# Altium footprint library PCB.PCBLIB: 320 footprints (part 9 of 20)
Each footprint in its own frame and in the unit in brackets; x right, y up, seen from the top. Pads: shape width x height; smd on the part's side, far side on the other; paste and mask are expansions set on the pad; w line width, h text height; cw(c..) or ccw(c..) is an arc to the next point about the centre after c.
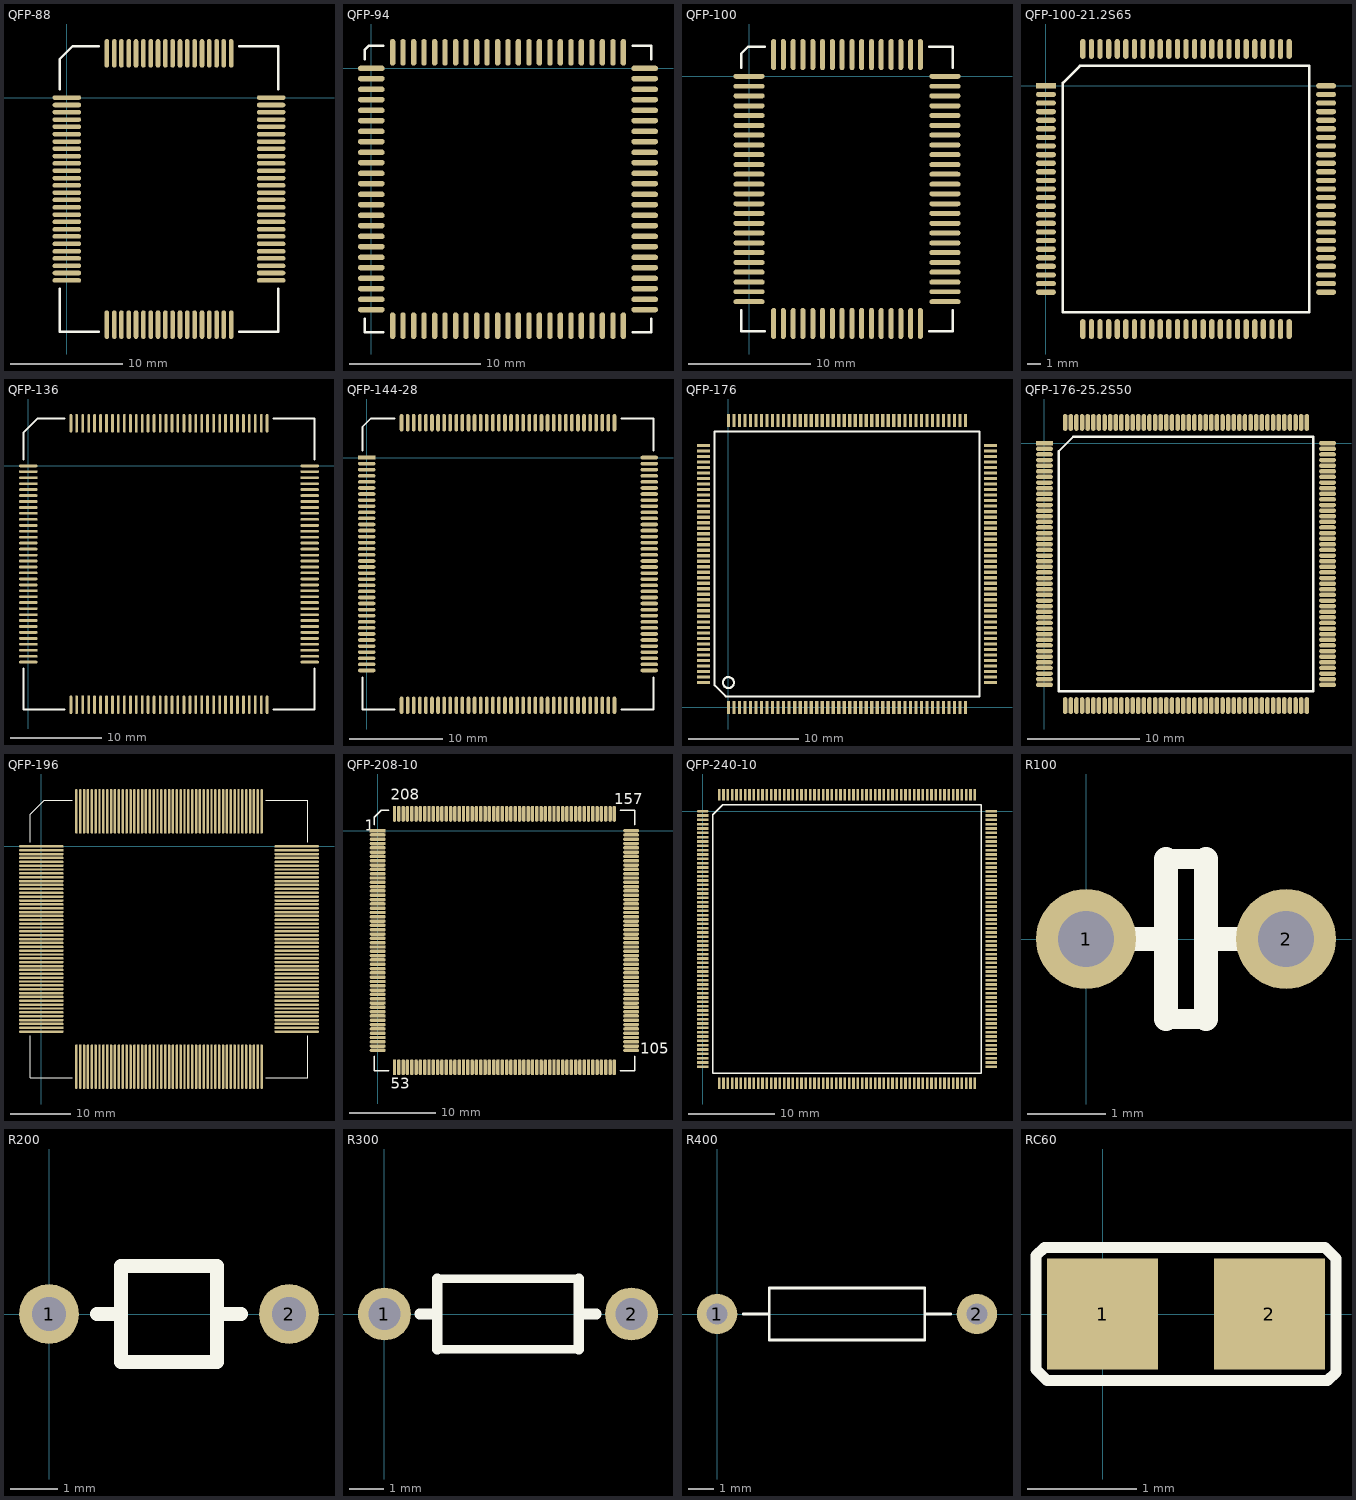
[diagram p8: the footprints below, top view; thin cyan lines are the x and y axes]

## QFP-88 [mil]
pads (88):
  oval 100x16 smd: 1(0,0) 2(0,-26) 3(0,-51) 4(0,-77) 5(0,-102) 6(0,-128) 7(0,-154) 8(0,-179) 9(0,-205) 10(0,-230) 11(0,-256) 12(0,-282) 13(0,-307) 14(0,-333) 15(0,-358) 16(0,-384) 17(0,-410) 18(0,-435) 19(0,-461) 20(0,-486) 21(0,-512) 22(0,-538) 23(0,-563) 24(0,-589) 25(0,-614) 26(0,-640) 45(715,-640) 46(715,-614) 47(715,-589) 48(715,-563) 49(715,-538) 50(715,-512) 51(715,-486) 52(715,-461) 53(715,-435) 54(715,-410) 55(715,-384) 56(715,-358) 57(715,-333) 58(715,-307) 59(715,-282) 60(715,-256) 61(715,-230) 62(715,-205) 63(715,-179) 64(715,-154) 65(715,-128) 66(715,-102) 67(715,-77) 68(715,-51) 69(715,-26) 70(715,0)
  oval 16x100 smd: 27(140,-795) 28(166,-795) 29(191,-795) 30(217,-795) 31(242,-795) 32(268,-795) 33(294,-795) 34(319,-795) 35(345,-795) 36(370,-795) 37(396,-795) 38(421,-795) 39(447,-795) 40(473,-795) 41(498,-795) 42(524,-795) 43(549,-795) 44(575,-795) 71(575,155) 72(549,155) 73(524,155) 74(498,155) 75(473,155) 76(447,155) 77(421,155) 78(396,155) 79(370,155) 80(345,155) 81(319,155) 82(294,155) 83(268,155) 84(242,155) 85(217,155) 86(191,155) 87(166,155) 88(140,155)
TopOverlay:
  lines w7.87: -25,-668 -25,-820 112,-820 ; -25,28 -25,135 20,180 112,180 ; 603,-820 740,-820 740,-668 ; 603,180 740,180 740,28

## QFP-94 [mil]
pads (94):
  oval 80x16 smd: 1(0,0) 2(0,-31) 3(0,-63) 4(0,-94) 5(0,-126) 6(0,-157) 7(0,-189) 8(0,-220) 9(0,-252) 10(0,-283) 11(0,-315) 12(0,-346) 13(0,-378) 14(0,-409) 15(0,-441) 16(0,-472) 17(0,-504) 18(0,-535) 19(0,-567) 20(0,-598) 21(0,-630) 22(0,-661) 23(0,-693) 24(0,-724) 48(820,-724) 49(820,-693) 50(820,-661) 51(820,-630) 52(820,-598) 53(820,-567) 54(820,-535) 55(820,-504) 56(820,-472) 57(820,-441) 58(820,-409) 59(820,-378) 60(820,-346) 61(820,-315) 62(820,-283) 63(820,-252) 64(820,-220) 65(820,-189) 66(820,-157) 67(820,-126) 68(820,-94) 69(820,-63) 70(820,-31) 71(820,0)
  oval 16x80 smd: 25(64,-772) 26(95,-772) 27(127,-772) 28(158,-772) 29(190,-772) 30(221,-772) 31(253,-772) 32(284,-772) 33(316,-772) 34(347,-772) 35(379,-772) 36(410,-772) 37(441,-772) 38(473,-772) 39(504,-772) 40(536,-772) 41(567,-772) 42(599,-772) 43(630,-772) 44(662,-772) 45(693,-772) 46(725,-772) 47(756,-772) 72(756,48) 73(725,48) 74(693,48) 75(662,48) 76(630,48) 77(599,48) 78(567,48) 79(536,48) 80(504,48) 81(473,48) 82(441,48) 83(410,48) 84(379,48) 85(347,48) 86(316,48) 87(284,48) 88(253,48) 89(221,48) 90(190,48) 91(158,48) 92(127,48) 93(95,48) 94(64,48)
TopOverlay:
  lines w7.87: -20,-752 -20,-792 36,-792 ; -20,28 -20,55 -7,68 36,68 ; 784,-792 840,-792 840,-752 ; 784,68 840,68 840,28

## QFP-100 [mil]
pads (80):
  oval 100x16 smd: 1(0,0) 2(0,-32) 3(0,-63) 4(0,-95) 5(0,-126) 6(0,-158) 7(0,-189) 8(0,-221) 9(0,-252) 10(0,-284) 11(0,-315) 12(0,-347) 13(0,-378) 14(0,-410) 15(0,-441) 16(0,-473) 17(0,-504) 18(0,-536) 19(0,-567) 20(0,-599) 21(0,-630) 22(0,-662) 23(0,-693) 24(0,-725) 41(630,-725) 42(630,-693) 43(630,-662) 44(630,-630) 45(630,-599) 46(630,-567) 47(630,-536) 48(630,-504) 49(630,-473) 50(630,-441) 51(630,-410) 52(630,-378) 53(630,-347) 54(630,-315) 55(630,-284) 56(630,-252) 57(630,-221) 58(630,-189) 59(630,-158) 60(630,-126) 61(630,-95) 62(630,-63) 63(630,-32) 64(630,0)
  oval 16x100 smd: 25(79,-795) 26(110,-795) 27(142,-795) 28(173,-795) 29(205,-795) 30(236,-795) 31(268,-795) 32(299,-795) 33(331,-795) 34(362,-795) 35(394,-795) 36(425,-795) 37(457,-795) 38(488,-795) 39(520,-795) 40(551,-795) 65(551,70) 66(520,70) 67(488,70) 68(457,70) 69(425,70) 70(394,70) 71(362,70) 72(331,70) 73(299,70) 74(268,70) 75(236,70) 76(205,70) 77(173,70) 78(142,70) 79(110,70) 80(79,70)
TopOverlay:
  lines w7.87: -25,-753 -25,-820 51,-820 ; -25,28 -25,73 -3,95 51,95 ; 579,-820 655,-820 655,-753 ; 579,95 655,95 655,28

## QFP-100-21.2S65 [mm]
pads (100):
  rect 1.5x0.4 smd: 1(0,0)
  oval 1.5x0.4 smd: 2(0,-0.65) 3(0,-1.3) 4(0,-1.95) 5(0,-2.6) 6(0,-3.25) 7(0,-3.9) 8(0,-4.55) 9(0,-5.2) 10(0,-5.85) 11(0,-6.5) 12(0,-7.15) 13(0,-7.8) 14(0,-8.45) 15(0,-9.1) 16(0,-9.75) 17(0,-10.4) 18(0,-11.05) 19(0,-11.7) 20(0,-12.35) 21(0,-13) 22(0,-13.65) 23(0,-14.3) 24(0,-14.95) 25(0,-15.6) 51(21.18,-15.6) 52(21.18,-14.95) 53(21.18,-14.3) 54(21.18,-13.65) 55(21.18,-13) 56(21.18,-12.35) 57(21.18,-11.7) 58(21.18,-11.05) 59(21.18,-10.4) 60(21.18,-9.75) 61(21.18,-9.1) 62(21.18,-8.45) 63(21.18,-7.8) 64(21.18,-7.15) 65(21.18,-6.5) 66(21.18,-5.85) 67(21.18,-5.2) 68(21.18,-4.55) 69(21.18,-3.9) 70(21.18,-3.25) 71(21.18,-2.6) 72(21.18,-1.95) 73(21.18,-1.3) 74(21.18,-0.65) 75(21.18,0)
  oval 0.4x1.5 smd: 26(2.79,-18.39) 27(3.44,-18.39) 28(4.09,-18.39) 29(4.74,-18.39) 30(5.39,-18.39) 31(6.04,-18.39) 32(6.69,-18.39) 33(7.34,-18.39) 34(7.99,-18.39) 35(8.64,-18.39) 36(9.29,-18.39) 37(9.94,-18.39) 38(10.59,-18.39) 39(11.24,-18.39) 40(11.89,-18.39) 41(12.54,-18.39) 42(13.19,-18.39) 43(13.84,-18.39) 44(14.49,-18.39) 45(15.14,-18.39) 46(15.79,-18.39) 47(16.44,-18.39) 48(17.09,-18.39) 49(17.74,-18.39) 50(18.39,-18.39) 76(18.39,2.79) 77(17.74,2.79) 78(17.09,2.79) 79(16.44,2.79) 80(15.79,2.79) 81(15.14,2.79) 82(14.49,2.79) 83(13.84,2.79) 84(13.19,2.79) 85(12.54,2.79) 86(11.89,2.79) 87(11.24,2.79) 88(10.59,2.79) 89(9.94,2.79) 90(9.29,2.79) 91(8.64,2.79) 92(7.99,2.79) 93(7.34,2.79) 94(6.69,2.79) 95(6.04,2.79) 96(5.39,2.79) 97(4.74,2.79) 98(4.09,2.79) 99(3.44,2.79) 100(2.79,2.79)
TopOverlay:
  lines w0.2: 1.285,-17.105 19.895,-17.105 19.895,1.505 2.57,1.505 1.285,0.22 1.285,-17.105

## QFP-136 [mil]
pads (136):
  oval 80x12 smd: 1(0,0) 2(0,-25) 3(0,-51) 4(0,-77) 5(0,-102) 6(0,-128) 7(0,-153) 8(0,-179) 9(0,-204) 10(0,-230) 11(0,-256) 12(0,-281) 13(0,-307) 14(0,-332) 15(0,-358) 16(0,-384) 17(0,-409) 18(0,-435) 19(0,-460) 20(0,-486) 21(0,-512) 22(0,-537) 23(0,-563) 24(0,-588) 25(0,-614) 26(0,-640) 27(0,-665) 28(0,-691) 29(0,-716) 30(0,-742) 31(0,-767) 32(0,-793) 33(0,-819) 34(0,-844) 69(1210,-844) 70(1210,-819) 71(1210,-793) 72(1210,-767) 73(1210,-742) 74(1210,-716) 75(1210,-691) 76(1210,-665) 77(1210,-640) 78(1210,-614) 79(1210,-588) 80(1210,-563) 81(1210,-537) 82(1210,-512) 83(1210,-486) 84(1210,-460) 85(1210,-435) 86(1210,-409) 87(1210,-384) 88(1210,-358) 89(1210,-332) 90(1210,-307) 91(1210,-281) 92(1210,-256) 93(1210,-230) 94(1210,-204) 95(1210,-179) 96(1210,-153) 97(1210,-128) 98(1210,-102) 99(1210,-77) 100(1210,-51) 101(1210,-25) 102(1210,0)
  oval 12x80 smd: 35(183,-1027) 36(208,-1027) 37(234,-1027) 38(260,-1027) 39(285,-1027) 40(311,-1027) 41(336,-1027) 42(362,-1027) 43(387,-1027) 44(413,-1027) 45(439,-1027) 46(464,-1027) 47(490,-1027) 48(515,-1027) 49(541,-1027) 50(567,-1027) 51(592,-1027) 52(618,-1027) 53(643,-1027) 54(669,-1027) 55(695,-1027) 56(720,-1027) 57(746,-1027) 58(771,-1027) 59(797,-1027) 60(823,-1027) 61(848,-1027) 62(874,-1027) 63(899,-1027) 64(925,-1027) 65(950,-1027) 66(976,-1027) 67(1002,-1027) 68(1027,-1027) 103(1027,183) 104(1002,183) 105(976,183) 106(950,183) 107(925,183) 108(899,183) 109(874,183) 110(848,183) 111(823,183) 112(797,183) 113(771,183) 114(746,183) 115(720,183) 116(695,183) 117(669,183) 118(643,183) 119(618,183) 120(592,183) 121(567,183) 122(541,183) 123(515,183) 124(490,183) 125(464,183) 126(439,183) 127(413,183) 128(387,183) 129(362,183) 130(336,183) 131(311,183) 132(285,183) 133(260,183) 134(234,183) 135(208,183) 136(183,183)
TopOverlay:
  lines w7.87: -20,-870 -20,-1047 157,-1047 ; -20,26 -20,144 39,203 157,203 ; 1053,-1047 1230,-1047 1230,-870 ; 1053,203 1230,203 1230,26

## QFP-144-28 [mm]
pads (144):
  rect 1.86x0.39 smd: 1(0,0)
  oval 1.86x0.39 smd: 2(0,-0.65) 3(0,-1.3) 4(0,-1.95) 5(0,-2.6) 6(0,-3.25) 7(0,-3.9) 8(0,-4.55) 9(0,-5.2) 10(0,-5.85) 11(0,-6.5) 12(0,-7.15) 13(0,-7.8) 14(0,-8.45) 15(0,-9.1) 16(0,-9.75) 17(0,-10.4) 18(0,-11.05) 19(0,-11.7) 20(0,-12.35) 21(0,-13) 22(0,-13.65) 23(0,-14.3) 24(0,-14.95) 25(0,-15.6) 26(0,-16.25) 27(0,-16.9) 28(0,-17.55) 29(0,-18.2) 30(0,-18.85) 31(0,-19.5) 32(0,-20.15) 33(0,-20.8) 34(0,-21.45) 35(0,-22.1) 36(0,-22.75) 73(30.2,-22.75) 74(30.2,-22.1) 75(30.2,-21.45) 76(30.2,-20.8) 77(30.2,-20.15) 78(30.2,-19.5) 79(30.2,-18.85) 80(30.2,-18.2) 81(30.2,-17.55) 82(30.2,-16.9) 83(30.2,-16.25) 84(30.2,-15.6) 85(30.2,-14.95) 86(30.2,-14.3) 87(30.2,-13.65) 88(30.2,-13) 89(30.2,-12.35) 90(30.2,-11.7) 91(30.2,-11.05) 92(30.2,-10.4) 93(30.2,-9.75) 94(30.2,-9.1) 95(30.2,-8.45) 96(30.2,-7.8) 97(30.2,-7.15) 98(30.2,-6.5) 99(30.2,-5.85) 100(30.2,-5.2) 101(30.2,-4.55) 102(30.2,-3.9) 103(30.2,-3.25) 104(30.2,-2.6) 105(30.2,-1.95) 106(30.2,-1.3) 107(30.2,-0.65) 108(30.2,0)
  oval 0.39x1.86 smd: 37(3.725,-26.475) 38(4.375,-26.475) 39(5.025,-26.475) 40(5.675,-26.475) 41(6.325,-26.475) 42(6.975,-26.475) 43(7.625,-26.475) 44(8.275,-26.475) 45(8.925,-26.475) 46(9.575,-26.475) 47(10.225,-26.475) 48(10.875,-26.475) 49(11.525,-26.475) 50(12.175,-26.475) 51(12.825,-26.475) 52(13.475,-26.475) 53(14.125,-26.475) 54(14.775,-26.475) 55(15.425,-26.475) 56(16.075,-26.475) 57(16.725,-26.475) 58(17.375,-26.475) 59(18.025,-26.475) 60(18.675,-26.475) 61(19.325,-26.475) 62(19.975,-26.475) 63(20.625,-26.475) 64(21.275,-26.475) 65(21.925,-26.475) 66(22.575,-26.475) 67(23.225,-26.475) 68(23.875,-26.475) 69(24.525,-26.475) 70(25.175,-26.475) 71(25.825,-26.475) 72(26.475,-26.475) 109(26.475,3.725) 110(25.825,3.725) 111(25.175,3.725) 112(24.525,3.725) 113(23.875,3.725) 114(23.225,3.725) 115(22.575,3.725) 116(21.925,3.725) 117(21.275,3.725) 118(20.625,3.725) 119(19.975,3.725) 120(19.325,3.725) 121(18.675,3.725) 122(18.025,3.725) 123(17.375,3.725) 124(16.725,3.725) 125(16.075,3.725) 126(15.425,3.725) 127(14.775,3.725) 128(14.125,3.725) 129(13.475,3.725) 130(12.825,3.725) 131(12.175,3.725) 132(11.525,3.725) 133(10.875,3.725) 134(10.225,3.725) 135(9.575,3.725) 136(8.925,3.725) 137(8.275,3.725) 138(7.625,3.725) 139(6.975,3.725) 140(6.325,3.725) 141(5.675,3.725) 142(5.025,3.725) 143(4.375,3.725) 144(3.725,3.725)
TopOverlay:
  lines w0.2: -0.45,-23.5 -0.45,-26.925 2.975,-26.925 ; -0.45,0.75 -0.45,3.275 0.45,4.175 2.975,4.175 ; 27.225,-26.925 30.65,-26.925 30.65,-23.5 ; 27.225,4.175 30.65,4.175 30.65,0.75

## QFP-176 [mm]
pads (176):
  rect 0.3x1.2 smd: 1(0,0) 2(0.5,0) 3(1,0) 4(1.5,0) 5(2,0) 6(2.5,0) 7(3,0) 8(3.5,0) 9(4,0) 10(4.5,0) 11(5,0) 12(5.5,0) 13(6,0) 14(6.5,0) 15(7,0) 16(7.5,0) 17(8,0) 18(8.5,0) 19(9,0) 20(9.5,0) 21(10,0) 22(10.5,0) 23(11,0) 24(11.5,0) 25(12,0) 26(12.5,0) 27(13,0) 28(13.5,0) 29(14,0) 30(14.5,0) 31(15,0) 32(15.5,0) 33(16,0) 34(16.5,0) 35(17,0) 36(17.5,0) 37(18,0) 38(18.5,0) 39(19,0) 40(19.5,0) 41(20,0) 42(20.5,0) 43(21,0) 44(21.5,0) 89(21.5,26) 90(21,26) 91(20.5,26) 92(20,26) 93(19.5,26) 94(19,26) 95(18.5,26) 96(18,26) 97(17.5,26) 98(17,26) 99(16.5,26) 100(16,26) 101(15.5,26) 102(15,26) 103(14.5,26) 104(14,26) 105(13.5,26) 106(13,26) 107(12.5,26) 108(12,26) 109(11.5,26) 110(11,26) 111(10.5,26) 112(10,26) 113(9.5,26) 114(9,26) 115(8.5,26) 116(8,26) 117(7.5,26) 118(7,26) 119(6.5,26) 120(6,26) 121(5.5,26) 122(5,26) 123(4.5,26) 124(4,26) 125(3.5,26) 126(3,26) 127(2.5,26) 128(2,26) 129(1.5,26) 130(1,26) 131(0.5,26) 132(0,26)
  rect 1.2x0.3 smd: 45(23.75,2.25) 46(23.75,2.75) 47(23.75,3.25) 48(23.75,3.75) 49(23.75,4.25) 50(23.75,4.75) 51(23.75,5.25) 52(23.75,5.75) 53(23.75,6.25) 54(23.75,6.75) 55(23.75,7.25) 56(23.75,7.75) 57(23.75,8.25) 58(23.75,8.75) 59(23.75,9.25) 60(23.75,9.75) 61(23.75,10.25) 62(23.75,10.75) 63(23.75,11.25) 64(23.75,11.75) 65(23.75,12.25) 66(23.75,12.75) 67(23.75,13.25) 68(23.75,13.75) 69(23.75,14.25) 70(23.75,14.75) 71(23.75,15.25) 72(23.75,15.75) 73(23.75,16.25) 74(23.75,16.75) 75(23.75,17.25) 76(23.75,17.75) 77(23.75,18.25) 78(23.75,18.75) 79(23.75,19.25) 80(23.75,19.75) 81(23.75,20.25) 82(23.75,20.75) 83(23.75,21.25) 84(23.75,21.75) 85(23.75,22.25) 86(23.75,22.75) 87(23.75,23.25) 88(23.75,23.75) 133(-2.25,23.75) 134(-2.25,23.25) 135(-2.25,22.75) 136(-2.25,22.25) 137(-2.25,21.75) 138(-2.25,21.25) 139(-2.25,20.75) 140(-2.25,20.25) 141(-2.25,19.75) 142(-2.25,19.25) 143(-2.25,18.75) 144(-2.25,18.25) 145(-2.25,17.75) 146(-2.25,17.25) 147(-2.25,16.75) 148(-2.25,16.25) 149(-2.25,15.75) 150(-2.25,15.25) 151(-2.25,14.75) 152(-2.25,14.25) 153(-2.25,13.75) 154(-2.25,13.25) 155(-2.25,12.75) 156(-2.25,12.25) 157(-2.25,11.75) 158(-2.25,11.25) 159(-2.25,10.75) 160(-2.25,10.25) 161(-2.25,9.75) 162(-2.25,9.25) 163(-2.25,8.75) 164(-2.25,8.25) 165(-2.25,7.75) 166(-2.25,7.25) 167(-2.25,6.75) 168(-2.25,6.25) 169(-2.25,5.75) 170(-2.25,5.25) 171(-2.25,4.75) 172(-2.25,4.25) 173(-2.25,3.75) 174(-2.25,3.25) 175(-2.25,2.75) 176(-2.25,2.25)
TopOverlay:
  circle w0.2: c0,2.25 r0.5
  lines w0.2: -1.25,2 -1.25,25 22.75,25 22.75,1 -0.25,1 -1.25,2

## QFP-176-25.2S50 [mm]
pads (176):
  rect 1.5x0.4 smd: 1(0,0)
  oval 1.5x0.4 smd: 2(0,-0.5) 3(0,-1) 4(0,-1.5) 5(0,-2) 6(0,-2.5) 7(0,-3) 8(0,-3.5) 9(0,-4) 10(0,-4.5) 11(0,-5) 12(0,-5.5) 13(0,-6) 14(0,-6.5) 15(0,-7) 16(0,-7.5) 17(0,-8) 18(0,-8.5) 19(0,-9) 20(0,-9.5) 21(0,-10) 22(0,-10.5) 23(0,-11) 24(0,-11.5) 25(0,-12) 26(0,-12.5) 27(0,-13) 28(0,-13.5) 29(0,-14) 30(0,-14.5) 31(0,-15) 32(0,-15.5) 33(0,-16) 34(0,-16.5) 35(0,-17) 36(0,-17.5) 37(0,-18) 38(0,-18.5) 39(0,-19) 40(0,-19.5) 41(0,-20) 42(0,-20.5) 43(0,-21) 44(0,-21.5) 89(25.2,-21.5) 90(25.2,-21) 91(25.2,-20.5) 92(25.2,-20) 93(25.2,-19.5) 94(25.2,-19) 95(25.2,-18.5) 96(25.2,-18) 97(25.2,-17.5) 98(25.2,-17) 99(25.2,-16.5) 100(25.2,-16) 101(25.2,-15.5) 102(25.2,-15) 103(25.2,-14.5) 104(25.2,-14) 105(25.2,-13.5) 106(25.2,-13) 107(25.2,-12.5) 108(25.2,-12) 109(25.2,-11.5) 110(25.2,-11) 111(25.2,-10.5) 112(25.2,-10) 113(25.2,-9.5) 114(25.2,-9) 115(25.2,-8.5) 116(25.2,-8) 117(25.2,-7.5) 118(25.2,-7) 119(25.2,-6.5) 120(25.2,-6) 121(25.2,-5.5) 122(25.2,-5) 123(25.2,-4.5) 124(25.2,-4) 125(25.2,-3.5) 126(25.2,-3) 127(25.2,-2.5) 128(25.2,-2) 129(25.2,-1.5) 130(25.2,-1) 131(25.2,-0.5) 132(25.2,0)
  oval 0.4x1.5 smd: 45(1.85,-23.35) 46(2.35,-23.35) 47(2.85,-23.35) 48(3.35,-23.35) 49(3.85,-23.35) 50(4.35,-23.35) 51(4.85,-23.35) 52(5.35,-23.35) 53(5.85,-23.35) 54(6.35,-23.35) 55(6.85,-23.35) 56(7.35,-23.35) 57(7.85,-23.35) 58(8.35,-23.35) 59(8.85,-23.35) 60(9.35,-23.35) 61(9.85,-23.35) 62(10.35,-23.35) 63(10.85,-23.35) 64(11.35,-23.35) 65(11.85,-23.35) 66(12.35,-23.35) 67(12.85,-23.35) 68(13.35,-23.35) 69(13.85,-23.35) 70(14.35,-23.35) 71(14.85,-23.35) 72(15.35,-23.35) 73(15.85,-23.35) 74(16.35,-23.35) 75(16.85,-23.35) 76(17.35,-23.35) 77(17.85,-23.35) 78(18.35,-23.35) 79(18.85,-23.35) 80(19.35,-23.35) 81(19.85,-23.35) 82(20.35,-23.35) 83(20.85,-23.35) 84(21.35,-23.35) 85(21.85,-23.35) 86(22.35,-23.35) 87(22.85,-23.35) 88(23.35,-23.35) 133(23.35,1.85) 134(22.85,1.85) 135(22.35,1.85) 136(21.85,1.85) 137(21.35,1.85) 138(20.85,1.85) 139(20.35,1.85) 140(19.85,1.85) 141(19.35,1.85) 142(18.85,1.85) 143(18.35,1.85) 144(17.85,1.85) 145(17.35,1.85) 146(16.85,1.85) 147(16.35,1.85) 148(15.85,1.85) 149(15.35,1.85) 150(14.85,1.85) 151(14.35,1.85) 152(13.85,1.85) 153(13.35,1.85) 154(12.85,1.85) 155(12.35,1.85) 156(11.85,1.85) 157(11.35,1.85) 158(10.85,1.85) 159(10.35,1.85) 160(9.85,1.85) 161(9.35,1.85) 162(8.85,1.85) 163(8.35,1.85) 164(7.85,1.85) 165(7.35,1.85) 166(6.85,1.85) 167(6.35,1.85) 168(5.85,1.85) 169(5.35,1.85) 170(4.85,1.85) 171(4.35,1.85) 172(3.85,1.85) 173(3.35,1.85) 174(2.85,1.85) 175(2.35,1.85) 176(1.85,1.85)
TopOverlay:
  lines w0.2: 1.285,-22.065 1.285,-0.72 2.57,0.565 23.915,0.565 23.915,-22.065 1.285,-22.065

## QFP-196 [mil]
pads (196):
  oval 290x16 smd: 1(0,0) 2(0,-25) 3(0,-50) 4(0,-75) 5(0,-100) 6(0,-125) 7(0,-150) 8(0,-175) 9(0,-200) 10(0,-225) 11(0,-250) 12(0,-275) 13(0,-301) 14(0,-326) 15(0,-351) 16(0,-376) 17(0,-401) 18(0,-426) 19(0,-451) 20(0,-476) 21(0,-501) 22(0,-526) 23(0,-551) 24(0,-576) 25(0,-601) 26(0,-626) 27(0,-651) 28(0,-676) 29(0,-701) 30(0,-726) 31(0,-751) 32(0,-776) 33(0,-801) 34(0,-826) 35(0,-851) 36(0,-876) 37(0,-901) 38(0,-926) 39(0,-951) 40(0,-976) 41(0,-1001) 42(0,-1026) 43(0,-1051) 44(0,-1076) 45(0,-1101) 46(0,-1126) 47(0,-1151) 48(0,-1176) 49(0,-1201) 99(1655,-1201) 100(1655,-1176) 101(1655,-1151) 102(1655,-1126) 103(1655,-1101) 104(1655,-1076) 105(1655,-1051) 106(1655,-1026) 107(1655,-1001) 108(1655,-976) 109(1655,-951) 110(1655,-926) 111(1655,-901) 112(1655,-876) 113(1655,-851) 114(1655,-826) 115(1655,-801) 116(1655,-776) 117(1655,-751) 118(1655,-726) 119(1655,-701) 120(1655,-676) 121(1655,-651) 122(1655,-626) 123(1655,-601) 124(1655,-576) 125(1655,-551) 126(1655,-526) 127(1655,-501) 128(1655,-476) 129(1655,-451) 130(1655,-426) 131(1655,-401) 132(1655,-376) 133(1655,-351) 134(1655,-326) 135(1655,-301) 136(1655,-275) 137(1655,-250) 138(1655,-225) 139(1655,-200) 140(1655,-175) 141(1655,-150) 142(1655,-125) 143(1655,-100) 144(1655,-75) 145(1655,-50) 146(1655,-25) 147(1655,0)
  oval 16x290 smd: 50(227,-1428) 51(252,-1428) 52(277,-1428) 53(302,-1428) 54(327,-1428) 55(352,-1428) 56(377,-1428) 57(402,-1428) 58(427,-1428) 59(452,-1428) 60(477,-1428) 61(502,-1428) 62(528,-1428) 63(553,-1428) 64(578,-1428) 65(603,-1428) 66(628,-1428) 67(653,-1428) 68(678,-1428) 69(703,-1428) 70(728,-1428) 71(753,-1428) 72(778,-1428) 73(803,-1428) 74(828,-1428) 75(853,-1428) 76(878,-1428) 77(903,-1428) 78(928,-1428) 79(953,-1428) 80(978,-1428) 81(1003,-1428) 82(1028,-1428) 83(1053,-1428) 84(1078,-1428) 85(1103,-1428) 86(1128,-1428) 87(1153,-1428) 88(1178,-1428) 89(1203,-1428) 90(1228,-1428) 91(1253,-1428) 92(1278,-1428) 93(1303,-1428) 94(1328,-1428) 95(1353,-1428) 96(1378,-1428) 97(1403,-1428) 98(1428,-1428) 148(1428,227) 149(1403,227) 150(1378,227) 151(1353,227) 152(1328,227) 153(1303,227) 154(1278,227) 155(1253,227) 156(1228,227) 157(1203,227) 158(1178,227) 159(1153,227) 160(1128,227) 161(1103,227) 162(1078,227) 163(1053,227) 164(1028,227) 165(1003,227) 166(978,227) 167(953,227) 168(928,227) 169(903,227) 170(878,227) 171(853,227) 172(828,227) 173(803,227) 174(778,227) 175(753,227) 176(728,227) 177(703,227) 178(678,227) 179(653,227) 180(628,227) 181(603,227) 182(578,227) 183(553,227) 184(528,227) 185(502,227) 186(477,227) 187(452,227) 188(427,227) 189(402,227) 190(377,227) 191(352,227) 192(327,227) 193(302,227) 194(277,227) 195(252,227) 196(227,227)
TopOverlay:
  lines w7.87: -72,-1228 -72,-1500 200,-1500 ; -72,27 -72,209 18,299 200,299 ; 1455,-1500 1727,-1500 1727,-1228 ; 1455,299 1727,299 1727,27

## QFP-208-10 [mm]
pads (208):
  rect 1.854x0.4 smd: 1(0,0)
  oval 1.854x0.4 smd: 2(0,-0.5) 3(0,-1) 4(0,-1.5) 5(0,-2) 6(0,-2.5) 7(0,-3) 8(0,-3.5) 9(0,-4) 10(0,-4.5) 11(0,-5) 12(0,-5.5) 13(0,-6) 14(0,-6.5) 15(0,-7) 16(0,-7.5) 17(0,-8) 18(0,-8.5) 19(0,-9) 20(0,-9.5) 21(0,-10) 22(0,-10.5) 23(0,-11) 24(0,-11.5) 25(0,-12) 26(0,-12.5) 27(0,-13) 28(0,-13.5) 29(0,-14) 30(0,-14.5) 31(0,-15) 32(0,-15.5) 33(0,-16) 34(0,-16.5) 35(0,-17) 36(0,-17.5) 37(0,-18) 38(0,-18.5) 39(0,-19) 40(0,-19.5) 41(0,-20) 42(0,-20.5) 43(0,-21) 44(0,-21.5) 45(0,-22) 46(0,-22.5) 47(0,-23) 48(0,-23.5) 49(0,-24) 50(0,-24.5) 51(0,-25) 52(0,-25.5) 105(29.4,-25.5) 106(29.4,-25) 107(29.4,-24.5) 108(29.4,-24) 109(29.4,-23.5) 110(29.4,-23) 111(29.4,-22.5) 112(29.4,-22) 113(29.4,-21.5) 114(29.4,-21) 115(29.4,-20.5) 116(29.4,-20) 117(29.4,-19.5) 118(29.4,-19) 119(29.4,-18.5) 120(29.4,-18) 121(29.4,-17.5) 122(29.4,-17) 123(29.4,-16.5) 124(29.4,-16) 125(29.4,-15.5) 126(29.4,-15) 127(29.4,-14.5) 128(29.4,-14) 129(29.4,-13.5) 130(29.4,-13) 131(29.4,-12.5) 132(29.4,-12) 133(29.4,-11.5) 134(29.4,-11) 135(29.4,-10.5) 136(29.4,-10) 137(29.4,-9.5) 138(29.4,-9) 139(29.4,-8.5) 140(29.4,-8) 141(29.4,-7.5) 142(29.4,-7) 143(29.4,-6.5) 144(29.4,-6) 145(29.4,-5.5) 146(29.4,-5) 147(29.4,-4.5) 148(29.4,-4) 149(29.4,-3.5) 150(29.4,-3) 151(29.4,-2.5) 152(29.4,-2) 153(29.4,-1.5) 154(29.4,-1) 155(29.4,-0.5) 156(29.4,0)
  oval 0.4x1.854 smd: 53(1.95,-27.45) 54(2.45,-27.45) 55(2.95,-27.45) 56(3.45,-27.45) 57(3.95,-27.45) 58(4.45,-27.45) 59(4.95,-27.45) 60(5.45,-27.45) 61(5.95,-27.45) 62(6.45,-27.45) 63(6.95,-27.45) 64(7.45,-27.45) 65(7.95,-27.45) 66(8.45,-27.45) 67(8.95,-27.45) 68(9.45,-27.45) 69(9.95,-27.45) 70(10.45,-27.45) 71(10.95,-27.45) 72(11.45,-27.45) 73(11.95,-27.45) 74(12.45,-27.45) 75(12.95,-27.45) 76(13.45,-27.45) 77(13.95,-27.45) 78(14.45,-27.45) 79(14.95,-27.45) 80(15.45,-27.45) 81(15.95,-27.45) 82(16.45,-27.45) 83(16.95,-27.45) 84(17.45,-27.45) 85(17.95,-27.45) 86(18.45,-27.45) 87(18.95,-27.45) 88(19.45,-27.45) 89(19.95,-27.45) 90(20.45,-27.45) 91(20.95,-27.45) 92(21.45,-27.45) 93(21.95,-27.45) 94(22.45,-27.45) 95(22.95,-27.45) 96(23.45,-27.45) 97(23.95,-27.45) 98(24.45,-27.45) 99(24.95,-27.45) 100(25.45,-27.45) 101(25.95,-27.45) 102(26.45,-27.45) 103(26.95,-27.45) 104(27.45,-27.45) 157(27.45,1.95) 158(26.95,1.95) 159(26.45,1.95) 160(25.95,1.95) 161(25.45,1.95) 162(24.95,1.95) 163(24.45,1.95) 164(23.95,1.95) 165(23.45,1.95) 166(22.95,1.95) 167(22.45,1.95) 168(21.95,1.95) 169(21.45,1.95) 170(20.95,1.95) 171(20.45,1.95) 172(19.95,1.95) 173(19.45,1.95) 174(18.95,1.95) 175(18.45,1.95) 176(17.95,1.95) 177(17.45,1.95) 178(16.95,1.95) 179(16.45,1.95) 180(15.95,1.95) 181(15.45,1.95) 182(14.95,1.95) 183(14.45,1.95) 184(13.95,1.95) 185(13.45,1.95) 186(12.95,1.95) 187(12.45,1.95) 188(11.95,1.95) 189(11.45,1.95) 190(10.95,1.95) 191(10.45,1.95) 192(9.95,1.95) 193(9.45,1.95) 194(8.95,1.95) 195(8.45,1.95) 196(7.95,1.95) 197(7.45,1.95) 198(6.95,1.95) 199(6.45,1.95) 200(5.95,1.95) 201(5.45,1.95) 202(4.95,1.95) 203(4.45,1.95) 204(3.95,1.95) 205(3.45,1.95) 206(2.95,1.95) 207(2.45,1.95) 208(1.95,1.95)
TopOverlay:
  lines w0.2: -0.4,-26.2 -0.4,-27.85 1.25,-27.85 ; -0.4,0.7 -0.4,1.55 0.4,2.35 1.25,2.35 ; 28.15,-27.85 29.8,-27.85 29.8,-26.2 ; 28.15,2.35 29.8,2.35 29.8,0.7
  text "1" at -1.524,0 h1.27
  text "53" at 1.524,-29.972 h1.27
  text "105" at 30.48,-25.908 h1.27
  text "157" at 27.432,3.048 h1.27
  text "208" at 1.524,3.556 h1.27

## QFP-240-10 [mil]
pads (240):
  oval 52x12 smd: 1(0,0)
  rect 52x12 smd: 2(0,-19.68) 3(0,-39.37) 4(0,-59.05) 5(0,-78.74) 6(0,-98.42) 7(0,-118.11) 8(0,-137.79) 9(0,-157.48) 10(0,-177.16) 11(0,-196.85) 12(0,-216.53) 13(0,-236.22) 14(0,-255.91) 15(0,-275.59) 16(0,-295.27) 17(0,-314.96) 18(0,-334.64) 19(0,-354.33) 20(0,-374.01) 21(0,-393.7) 22(0,-413.38) 23(0,-433.07) 24(0,-452.75) 25(0,-472.44) 26(0,-492.12) 27(0,-511.81) 28(0,-531.5) 29(0,-551.18) 30(0,-570.87) 31(0,-590.55) 32(0,-610.24) 33(0,-629.92) 34(0,-649.61) 35(0,-669.29) 36(0,-688.98) 37(0,-708.66) 38(0,-728.35) 39(0,-748.03) 40(0,-767.72) 41(0,-787.4) 42(0,-807.09) 43(0,-826.77) 44(0,-846.46) 45(0,-866.14) 46(0,-885.83) 47(0,-905.51) 48(0,-925.2) 49(0,-944.88) 50(0,-964.57) 51(0,-984.25) 52(0,-1003.93) 53(0,-1023.62) 54(0,-1043.31) 55(0,-1062.99) 56(0,-1082.67) 57(0,-1102.36) 58(0,-1122.05) 59(0,-1141.73) 60(0,-1161.41) 121(1311.02,-1161.41) 122(1311.02,-1141.73) 123(1311.02,-1122.05) 124(1311.02,-1102.36) 125(1311.02,-1082.67) 126(1311.02,-1062.99) 127(1311.02,-1043.31) 128(1311.02,-1023.62) 129(1311.02,-1003.93) 130(1311.02,-984.25) 131(1311.02,-964.57) 132(1311.02,-944.88) 133(1311.02,-925.2) 134(1311.02,-905.51) 135(1311.02,-885.83) 136(1311.02,-866.14) 137(1311.02,-846.46) 138(1311.02,-826.77) 139(1311.02,-807.09) 140(1311.02,-787.4) 141(1311.02,-767.72) 142(1311.02,-748.03) 143(1311.02,-728.35) 144(1311.02,-708.66) 145(1311.02,-688.98) 146(1311.02,-669.29) 147(1311.02,-649.61) 148(1311.02,-629.92) 149(1311.02,-610.24) 150(1311.02,-590.55) 151(1311.02,-570.87) 152(1311.02,-551.18) 153(1311.02,-531.5) 154(1311.02,-511.81) 155(1311.02,-492.12) 156(1311.02,-472.44) 157(1311.02,-452.75) 158(1311.02,-433.07) 159(1311.02,-413.38) 160(1311.02,-393.7) 161(1311.02,-374.01) 162(1311.02,-354.33) 163(1311.02,-334.64) 164(1311.02,-314.96) 165(1311.02,-295.27) 166(1311.02,-275.59) 167(1311.02,-255.91) 168(1311.02,-236.22) 169(1311.02,-216.53) 170(1311.02,-196.85) 171(1311.02,-177.16) 172(1311.02,-157.48) 173(1311.02,-137.79) 174(1311.02,-118.11) 175(1311.02,-98.42) 176(1311.02,-78.74) 177(1311.02,-59.05) 178(1311.02,-39.37) 179(1311.02,-19.68) 180(1311.02,0)
  rect 12x52 smd: 61(74.8,-1236.22) 62(94.49,-1236.22) 63(114.17,-1236.22) 64(133.86,-1236.22) 65(153.54,-1236.22) 66(173.23,-1236.22) 67(192.91,-1236.22) 68(212.6,-1236.22) 69(232.28,-1236.22) 70(251.97,-1236.22) 71(271.65,-1236.22) 72(291.34,-1236.22) 73(311.02,-1236.22) 74(330.71,-1236.22) 75(350.39,-1236.22) 76(370.08,-1236.22) 77(389.76,-1236.22) 78(409.45,-1236.22) 79(429.13,-1236.22) 80(448.82,-1236.22) 81(468.5,-1236.22) 82(488.19,-1236.22) 83(507.87,-1236.22) 84(527.56,-1236.22) 85(547.24,-1236.22) 86(566.93,-1236.22) 87(586.61,-1236.22) 88(606.3,-1236.22) 89(625.98,-1236.22) 90(645.67,-1236.22) 91(665.35,-1236.22) 92(685.04,-1236.22) 93(704.72,-1236.22) 94(724.41,-1236.22) 95(744.09,-1236.22) 96(763.78,-1236.22) 97(783.46,-1236.22) 98(803.15,-1236.22) 99(822.83,-1236.22) 100(842.52,-1236.22) 101(862.2,-1236.22) 102(881.89,-1236.22) 103(901.57,-1236.22) 104(921.26,-1236.22) 105(940.94,-1236.22) 106(960.63,-1236.22) 107(980.31,-1236.22) 108(1000,-1236.22) 109(1019.68,-1236.22) 110(1039.37,-1236.22) 111(1059.05,-1236.22) 112(1078.74,-1236.22) 113(1098.42,-1236.22) 114(1118.11,-1236.22) 115(1137.79,-1236.22) 116(1157.48,-1236.22) 117(1177.16,-1236.22) 118(1196.85,-1236.22) 119(1216.53,-1236.22) 120(1236.22,-1236.22) 181(1236.22,74.8) 182(1216.53,74.8) 183(1196.85,74.8) 184(1177.16,74.8) 185(1157.48,74.8) 186(1137.79,74.8) 187(1118.11,74.8) 188(1098.42,74.8) 189(1078.74,74.8) 190(1059.05,74.8) 191(1039.37,74.8) 192(1019.68,74.8) 193(1000,74.8) 194(980.31,74.8) 195(960.63,74.8) 196(940.94,74.8) 197(921.26,74.8) 198(901.57,74.8) 199(881.89,74.8) 200(862.2,74.8) 201(842.52,74.8) 202(822.83,74.8) 203(803.15,74.8) 204(783.46,74.8) 205(763.78,74.8) 206(744.09,74.8) 207(724.41,74.8) 208(704.72,74.8) 209(685.04,74.8) 210(665.35,74.8) 211(645.67,74.8) 212(625.98,74.8) 213(606.3,74.8) 214(586.61,74.8) 215(566.93,74.8) 216(547.24,74.8) 217(527.56,74.8) 218(507.87,74.8) 219(488.19,74.8) 220(468.5,74.8) 221(448.82,74.8) 222(429.13,74.8) 223(409.45,74.8) 224(389.76,74.8) 225(370.08,74.8) 226(350.39,74.8) 227(330.71,74.8) 228(311.02,74.8) 229(291.34,74.8) 230(271.65,74.8) 231(251.97,74.8) 232(232.28,74.8) 233(212.6,74.8) 234(192.91,74.8) 235(173.23,74.8) 236(153.54,74.8) 237(133.86,74.8) 238(114.17,74.8) 239(94.49,74.8) 240(74.8,74.8)
TopOverlay:
  lines w7.87: 45.67,-1190.55 45.67,-16.54 91.34,29.13 1265.35,29.13 1265.35,-1190.55 45.67,-1190.55

## R100 [mil]
pads (2):
  round 50 hole 28: 1(0,0) 2(100,0)
TopOverlay:
  lines w10: 40,-40 60,-40 ; 40,40 60,40
  lines w12: 20,0 40,0 ; 40,-40 40,40 ; 60,-40 60,40 ; 60,0 80,0

## R200 [mil]
pads (2):
  round 50 hole 28: 1(0,0) 2(200,0)
TopOverlay:
  lines w12: 40,0 60,0 ; 140,0 160,0 ; 60,-40 60,40 140,40 140,-40 60,-40

## R300 [mil]
pads (2):
  round 60 hole 36: 1(0,0) 2(280,0)
TopOverlay:
  lines w10: 60,-40 220,-40 ; 60,40 220,40
  lines w12: 40,0 60,0 ; 60,-40 60,40 ; 220,-40 220,40 ; 220,0 240,0

## R400 [mil]
pads (2):
  round 62 hole 32: 1(0,0) 2(400,0)
TopOverlay:
  lines w3.94: 40,0 80,0 ; 320,0 360,0 ; 80,-40 80,40 320,40 320,-40 80,-40

## RC60 [mil]
pads (2):
  rect 40x40 smd: 1(0,0) 2(60,0)
TopOverlay:
  lines w4: -24,-20 -24,21 -21,24 80,24 84,20 84,-21 81,-24 -20,-24 -24,-20